# Altium footprint library Yunus_Pcb.PcbLib: 44 footprints (part 2 of 3)
Each footprint in its own frame and in the unit in brackets; x right, y up, seen from the top. Pads: shape width x height; smd on the part's side, far side on the other; paste and mask are expansions set on the pad; w line width, h text height; cw(c..) or ccw(c..) is an arc to the next point about the centre after c.
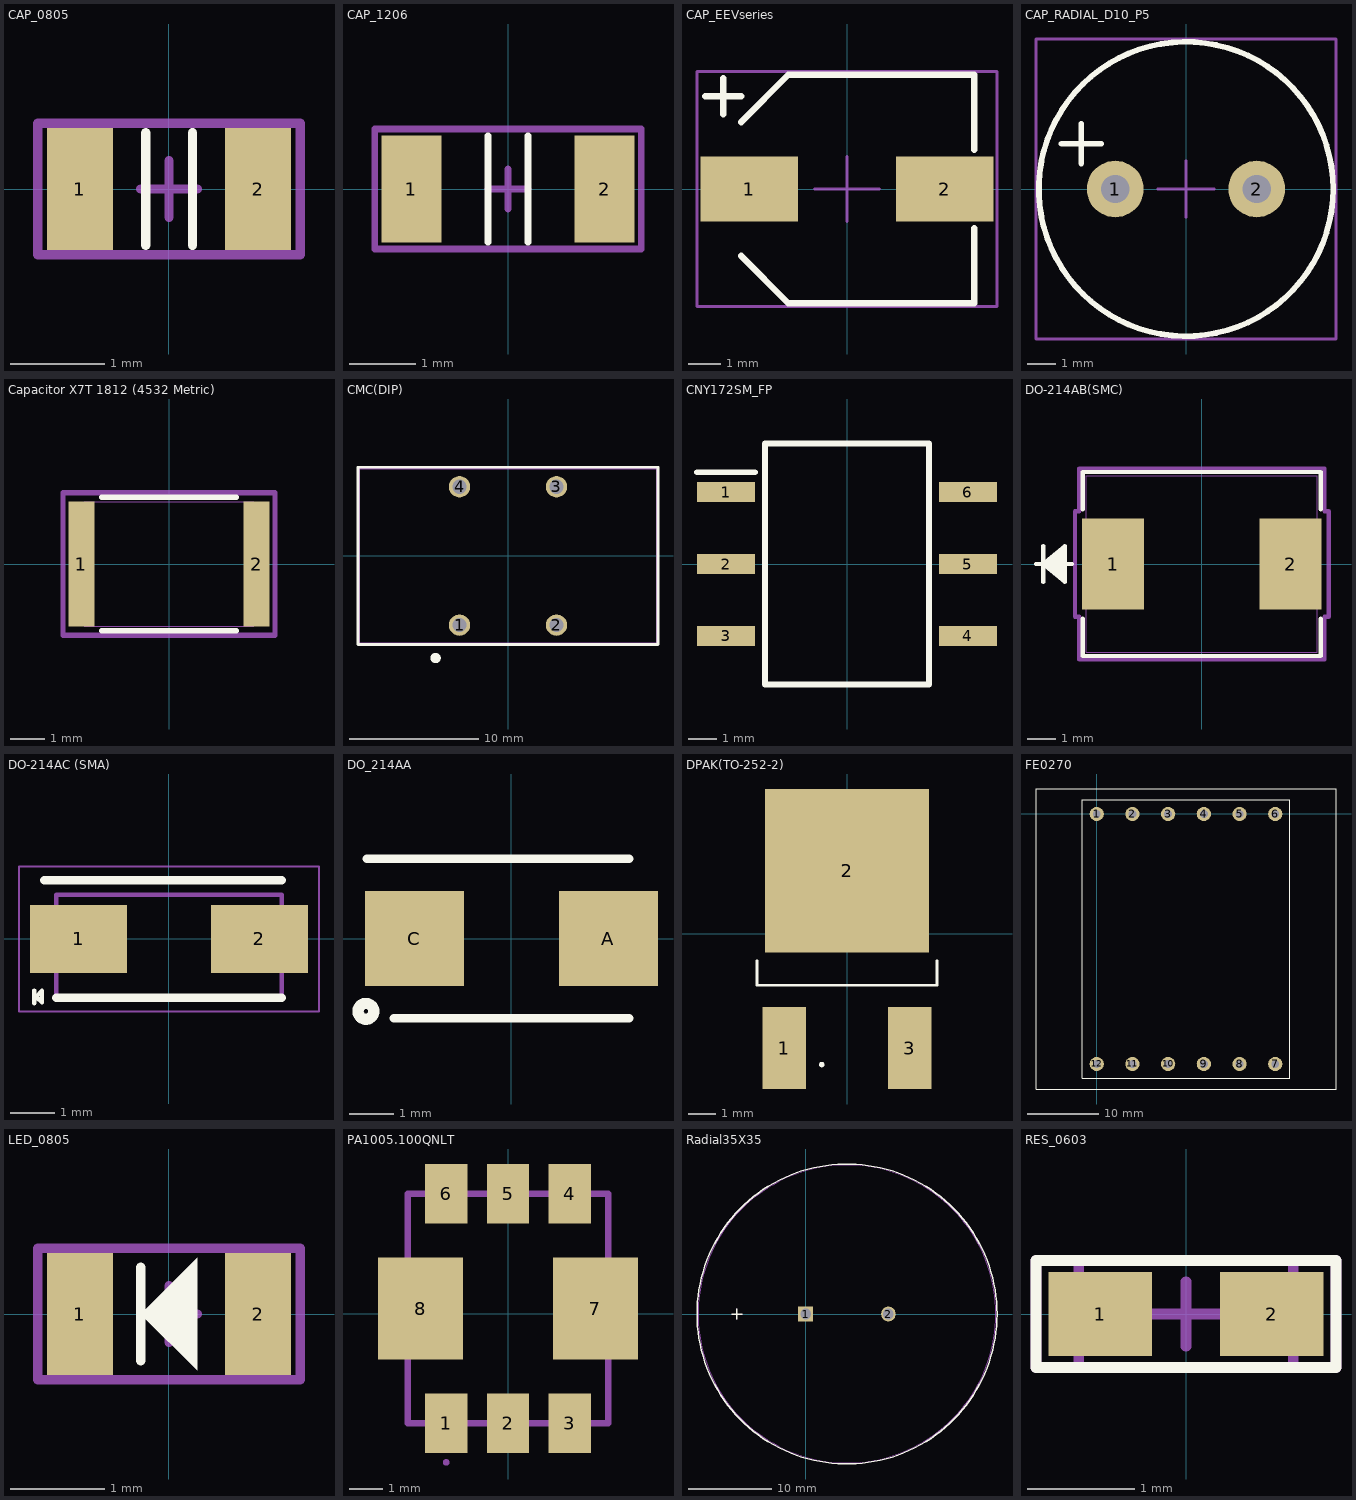
[diagram p1: the footprints below, top view; thin cyan lines are the x and y axes]

## CAP_0805 [mm]
pads (2):
  rect 0.7x1.3 smd mask+0.05: 1(-0.95,0) 2(0.95,0)
Top Overlay:
  lines w0.1: -0.25,-0.6 -0.25,0.6 ; 0.25,-0.6 0.25,0.6
Top Component Center:
  lines w0.1: -0.3,0 0.3,0 ; 0,-0.3 0,0.3 ; -1.4,-0.7 -1.4,0.7 1.4,0.7 1.4,-0.7 -1.4,-0.7
Top Designator:
  lines w0.1: -1.4,-0.7 -1.4,0.7 1.4,0.7 1.4,-0.7 -1.4,-0.7
  text "'.Designator'" at -1.25,-0.317 h0.7
3D body "CAPC0805.STEP": height 0.9, standoff 0, extent -1.301,-0.678 1.301,0.678

## CAP_1206 [mm]
pads (2):
  rect 0.9x1.6 smd mask+0.05: 1(-1.45,0) 2(1.45,0)
Top Overlay:
  lines w0.1: -0.3,-0.8 -0.3,0.8 ; 0.3,-0.8 0.3,0.8
Top Component Center:
  lines w0.1: -0.3,0 0.3,0 ; 0,-0.3 0,0.3 ; -2,-0.9 -2,0.9 2,0.9 2,-0.9 -2,-0.9
Top Designator:
  lines w0.1: -2,-0.9 -2,0.9 2,0.9 2,-0.9 -2,-0.9
  text "'.Designator'" at -1.25,-0.317 h0.7
3D body "CAPC1206.STEP": height 1.3, standoff -0.01, extent -1.975,-0.976 1.975,0.976

## CAP_EEVseries [mm]
pads (2):
  rect 3x2 smd mask+0.05: 1(-3,0) 2(3,0)
Top Overlay:
  lines w0.2: -4.35,2.85 -3.25,2.85 ; -3.8,2.3 -3.8,3.4 ; -3.25,-2.05 -1.8,-3.5 -1.5,-3.5 3.9,-3.5 3.9,-1.2 ; -3.25,2.05 -1.8,3.5 -1.5,3.5 3.9,3.5 3.9,1.2
Top Component Center:
  lines w0.1: -1,0 1,0 ; 0,-1 0,1 ; -4.6,-3.6 -4.6,3.6 4.6,3.6 4.6,-3.6 -4.6,-3.6
Top Designator:
  lines w0.1: -4.6,-3.6 -4.6,3.6 4.6,3.6 4.6,-3.6 -4.6,-3.6
  text "'.Designator'" at -2.846,-0.638 h1.52
3D body "EEV686M035A9HAA (1).step": height 8.01, standoff 0, extent -3.8,-3.4 3.8,3.4

## CAP_RADIAL_D10_P5 [mm]
pads (2):
  round 2 hole 1 mask+0.05: 1(-2.5,0) 2(2.5,0)
Top Overlay:
  circle w0.2: c0,0 r5.2
  lines w0.2: -4.4,1.6 -3,1.6 ; -3.7,0.9 -3.7,2.3
Top Component Center:
  lines w0.1: -1,0 1,0 ; 0,-1 0,1 ; -5.3,-5.3 -5.3,5.3 5.3,5.3 5.3,-5.3 -5.3,-5.3
Top Designator:
  lines w0.1: -5.3,-5.3 5.3,-5.3 5.3,5.3 -5.3,5.3 -5.3,-5.3
  text "'.Designator'" at -3.446,-0.938 h1.52
3D body "ESH477M050AH4AA (2).step": height 22.2, standoff -19.8, extent -5.25,-5.25 5.25,5.25

## Capacitor X7T 1812 (4532 Metric) [mil]
pads (2):
  rect 30x142 smd paste+0 mask+0: 1(-99.5,0) 2(99.5,0)
Top Overlay:
  lines w6: -76.39,-76 76.39,-76 ; -76.39,76 76.39,76
Top Designator:
  text "'.Designator'" at -49.21,-12.47 h27.56
Mechanical 13:
  circle w0: c-94.5,0 r3
  lines w1: -96.5,-71 -96.5,71 ; -96.5,-71 -88.5,-71 -88.5,71 -96.5,71 ; -96.5,-71 96.5,-71 ; -96.5,-71 -96.5,71 ; -96.5,71 96.5,71 ; 96.5,-71 88.5,-71 88.5,71 96.5,71 ; 96.5,-71 96.5,71 ; 96.5,-71 96.5,71
Mechanical 15:
  lines w6: -120.5,-81 -120.5,81 120.5,81 120.5,-81 -120.5,-81
3D body "CAP_4532_TDK.step": height 110, standoff 0, extent -96.5,-70.98 96.5,70.98

## CMC(DIP) [mm]
pads (4):
  round 1.65 hole 1.1: 1(-3.75,-5.35) 2(3.75,-5.35) 3(3.75,5.35) 4(-3.75,5.35)
Top Overlay:
  circle w0.4: c-5.6,-7.9 r0.2
  lines w0.2: -11.6,-6.85 -11.6,6.85 11.6,6.85 11.6,-6.85 -11.6,-6.85
Mechanical 13:
  lines w0.1: -11.5,-6.75 -11.5,6.75 11.5,6.75 11.5,-6.75 -11.5,-6.75
3D body "7448030509+(rev1).stp": height 21.86, standoff -7.6, extent -11.461,-6.767 11.461,6.653

## CNY172SM_FP [mm]
pads (6):
  rect 2.05x0.7 smd: 1(-4.275,2.54) 2(-4.275,0) 3(-4.275,-2.54) 4(4.275,-2.54) 5(4.275,0) 6(4.275,2.54)
Top Overlay:
  lines w0.2: -5.3,3.24 -3.25,3.24 ; -2.9,-4.255 -2.9,4.255 2.9,4.255 2.9,-4.255 -2.9,-4.255
3D body "CNY172SM.step": height 4.8, standoff 0, extent -4.583,-4.255 4.583,4.255

## DO-214AB(SMC) [mil]
pads (2):
  rect 86x126 smd paste+0 mask+0: 1(-123,0) 2(123,0)
Top Overlay:
  lines w6: -230,0 -180,0 ; -220,-25 -220,25 ; -190,-20 -220,0 ; -190,-15 -220,0 ; -190,-10 -220,0 ; -190,-5 -220,0 ; -190,5 -220,0 ; -190,10 -220,0 ; -190,15 -220,0 ; -190,20 -220,0 ; -165,-76.1 -165,-127.5 165,-127.5 165,-76.1 ; -165,76.1 -165,127.5 165,127.5 165,76.1 ; -220,0 -190,25 -190,-25 -220,0
Top Designator:
  text "'.Designator'" at -49.21,-12.47 h27.56
Mechanical 13:
  lines w1: -230,0 -180,0 ; -220,-25 -220,25 ; -190,-20 -220,0 ; -190,-15 -220,0 ; -190,-10 -220,0 ; -190,-5 -220,0 ; -190,5 -220,0 ; -190,10 -220,0 ; -190,15 -220,0 ; -190,20 -220,0 ; -220,0 -190,25 -190,-25 -220,0 ; -160,-122.5 160,-122.5 160,122.5 -160,122.5 -160,-122.5
Mechanical 15:
  lines w6: -176,-73 -176,73 -170,73 -170,132.5 170,132.5 170,73 176,73 176,-73 170,-73 170,-132.5 -170,-132.5 -170,-73 -176,-73
3D body "ACZRC-G.step": height 105, standoff 0, extent -160,-122.52 160,122.52

## DO-214AC (SMA) [mm]
pads (2):
  rect 2.2x1.55 smd: 1(-2.05,0) 2(2.05,0)
Top Overlay:
  lines w0.1: -3.057,-1.459 -3.057,-1.167 ; -3.049,-1.313 -3.016,-1.313 -2.879,-1.175 -2.879,-1.439 -2.989,-1.329 -3.016,-1.329
  lines w0.2: -2.825,1.332 2.552,1.332 ; -2.552,-1.332 2.552,-1.332
Mechanical 15:
  lines w0.1: -2.552,-1.332 -2.552,1 2.552,1 2.552,-1.332 -2.552,-1.332
Mechanical 20:
  lines w0.05: -3.4,-1.645 -3.4,1.645 3.4,1.645 3.4,-1.645 -3.4,-1.645
3D body "BYG20J.stp": height 2.22, standoff 0.05, extent -2.538,-1.401 2.555,1.264

## DO_214AA [mm]
pads (2):
  rect 2.25x2.15 smd: A(2.2,0) C(-2.2,0)
Top Overlay:
  circle w0.254: c-3.302,-1.651 r0.18
  lines w0.2: -3.275,1.81 2.668,1.81 ; -2.668,-1.81 2.668,-1.81
3D body "SMBJ5382B-TP.stp": height 0.94, standoff -1.32, extent -2.573,-1.895 2.827,1.905

## DPAK(TO-252-2) [mm]
pads (3):
  rect 1.6x3 smd: 1(-2.3,-4.2) 3(2.3,-4.2)
  rect 6x6 smd: 2(0,2.3)
Top Overlay:
  lines w0.1: -3.3,-1 -3.3,-1.9 3.3,-1.9 3.3,-1 ; -0.88,-4.784 cw(c-0.926,-4.803) -0.976,-4.803 cw(c-0.926,-4.803) -0.876,-4.803
3D body "NGD8201ANT4G.stp": height 2.39, standoff 0, extent -3.27,-4.959 3.27,4.959

## FE0270 [mm]
pads (12):
  round 2 hole 1.1: 1(0,0) 2(5,0) 3(10,0) 4(15,0) 5(20,0) 6(25,0) 7(25,-35) 8(20,-35) 9(15,-35) 10(10,-35) 11(5,-35) 12(0,-35)
Top Overlay:
  lines w0.025: -8.498,-38.501 33.502,-38.501 33.502,3.499 -8.498,3.499 -8.498,-38.501 ; -1.995,-36.995 27.005,-36.995 27.005,2.005 -1.995,2.005 -1.995,-36.995
3D body: height 24.96, standoff 9.8, extent -8.498,-38.501 33.502,3.499
3D body: height 34.25, standoff 0, extent -1.995,-36.995 27.005,2.005

## LED_0805 [mm]
pads (2):
  rect 0.7x1.3 smd mask+0.05: 1(-0.95,0) 2(0.95,0)
Top Overlay:
  region: -0.3,0 0.3,0.6 0.3,-0.6
  lines w0.1: -0.3,-0.5 -0.3,0.5
Top Component Center:
  lines w0.1: -0.3,0 0.3,0 ; 0,-0.3 0,0.3 ; -1.4,-0.7 -1.4,0.7 1.4,0.7 1.4,-0.7 -1.4,-0.7
Top Designator:
  lines w0.1: -1.4,-0.7 -1.4,0.7 1.4,0.7 1.4,-0.7 -1.4,-0.7
  text "'.Designator'" at -1.25,-0.317 h0.7
3D body "SMD_0805LED_GREEN.STEP": height 1.1, standoff 0, extent -1.01,-0.625 1.01,0.625

## PA1005.100QNLT [mm]
pads (8):
  rect 1.27x1.78 smd: 1(-1.85,-3.273) 2(0,-3.273) 3(1.85,-3.273) 4(1.85,3.597) 5(0,3.597) 6(-1.85,3.597)
  rect 2.54x3.05 smd: 7(2.615,0.162) 8(-2.615,0.162)
Top Component Center:
  lines w0.2: -3,-3.273 -3,3.597 3,3.597 3,-3.273 -3,-3.273
Bottom 3D Body:
  lines w0.1: -3,-3.273 -3,-1.838 ; -3,2.162 -3,3.597 ; 3,-3.273 3,-1.838 ; 3,2.162 3,3.597 ; -1.9,-4.438 ccw(c-1.85,-4.438) -1.8,-4.438 ccw(c-1.85,-4.438) -1.9,-4.438
3D body "PA1005.100QNLT.stp": height 5.1, standoff 0, extent -3.631,-4.106 3.631,4.29

## Radial35X35 [mil]
pads (2):
  rect 70x70 hole 50 paste-35 mask+0: 1(0,0)
  round 70 / inner round 60 / far side round 70 hole 50 paste-35 mask+0: 2(394,0)
Top Overlay:
  circle w6: c197,0 r713.5
  lines w6: -351.5,0 -301.5,0 ; -326.5,-25 -326.5,25
Mechanical 13:
  circle w0: c197,0 r708.5
  lines w1: -351.5,0 -301.5,0 ; -326.5,-25 -326.5,25
3D body "CAP_EETED_35X35_PAN.step": height 1457.6, standoff -220, extent -511.5,-708.29 906.36,708.29

## RES_0603 [mil]
pads (2):
  rect 38x31 smd mask+1.97: 1(-31.5,0) 2(31.5,0)
Top Overlay:
  lines w3.94: -55.12,-19.68 55.12,-19.68 55.12,19.68 -55.12,19.68 -55.12,-19.68
Top 3D Body:
  lines w3.94: -39.37,-19.68 -39.37,19.68 39.37,19.68 39.37,-19.68 -39.37,-19.68
Top Component Center:
  lines w3.94: -11.81,0 11.81,0 ; 0,-11.81 0,11.81 ; -55.12,-19.68 55.12,-19.68 55.12,19.68 -55.12,19.68 -55.12,-19.68
Top Designator:
  lines w3.94: -55.12,-19.68 55.12,-19.68 55.12,19.68 -55.12,19.68 -55.12,-19.68
  text ".Designator" at -39.37,-9.19 h19.68
3D body "0603S1.STEP": height 16.89, standoff -0.83, extent -38.92,-18.87 38.92,19.69